# EAGLE library part BMP085 (library pepelac)
BMP085 Digital pressure sensor
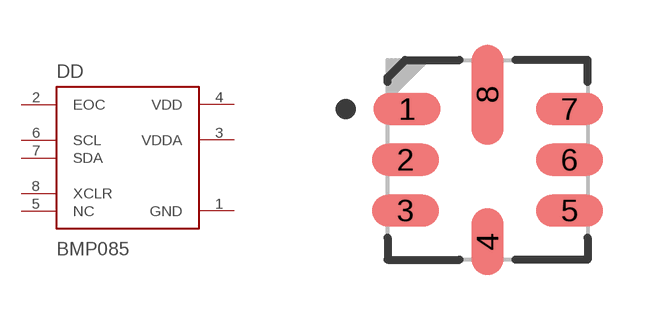
[diagram p1: symbol with the pads of QFN127P500X500X120-8N; footprint QFN127P500X500X120-8N]

Designator prefix DD

## BMP085  [QFN127P500X500X120-8N]
1  GND  pwr
2  EOC  out
3  VDDA  pwr
4  VDD  pwr
5  NC  nc
6  SCL  in
7  SDA
8  XCLR  in

## Footprint QFN127P500X500X120-8N (pad centres in mm)
IPC7351A / LCC8 / BMP085
smd 1.67 x 0.8: 1 -2.01,1.27; 2 -2.05,0; 3 -2.05,-1.27; 5 2.05,-1.27; 6 2.05,0; 7 2.05,1.27
smd 0.8 x 1.67: 4 0,-2.05
smd 0.8 x 2.5: 8 0,1.63